# Altium schematic symbol library MMBT3906LT3G.SchLib: 1 symbol
Pins are listed as number, name and electrical type; pins without a type are passive.

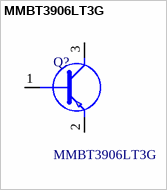
[diagram p0: symbol MMBT3906LT3G]

## MMBT3906LT3G
designator Q?
These Devices are Pb-Free, Halogen Free/BFR Free and are RoHS Compliant; S Prefix for Automotive and Other Applications Requiring Unique Site and Control Change Requirements; AEC-Q101 Qualified and PPAP Capable; Manufacturer_Name: onsemi; Geometry.Height: 1.11mm; Mouser Part Number: 863-MMBT3906LT3G; Mouser Price/Stock: https://www.mouser.co.uk/ProductDetail/onsemi/MMBT3906LT3G?qs=HVbQlW5zcXX6Jyx0WYl8Eg%3D%3D; Manufacturer_Part_Number: MMBT3906LT3G; Datasheet Link: https://www.onsemi.com/pub/Collateral/MMBT3906LT1-D.PDF
footprint SOT96P237X111-3N
pins: 1 B, 2 E, 3 C